# EAGLE library part FX8C-140P-SV (library Mechanical)
HRS FX8C SMT Receptacle
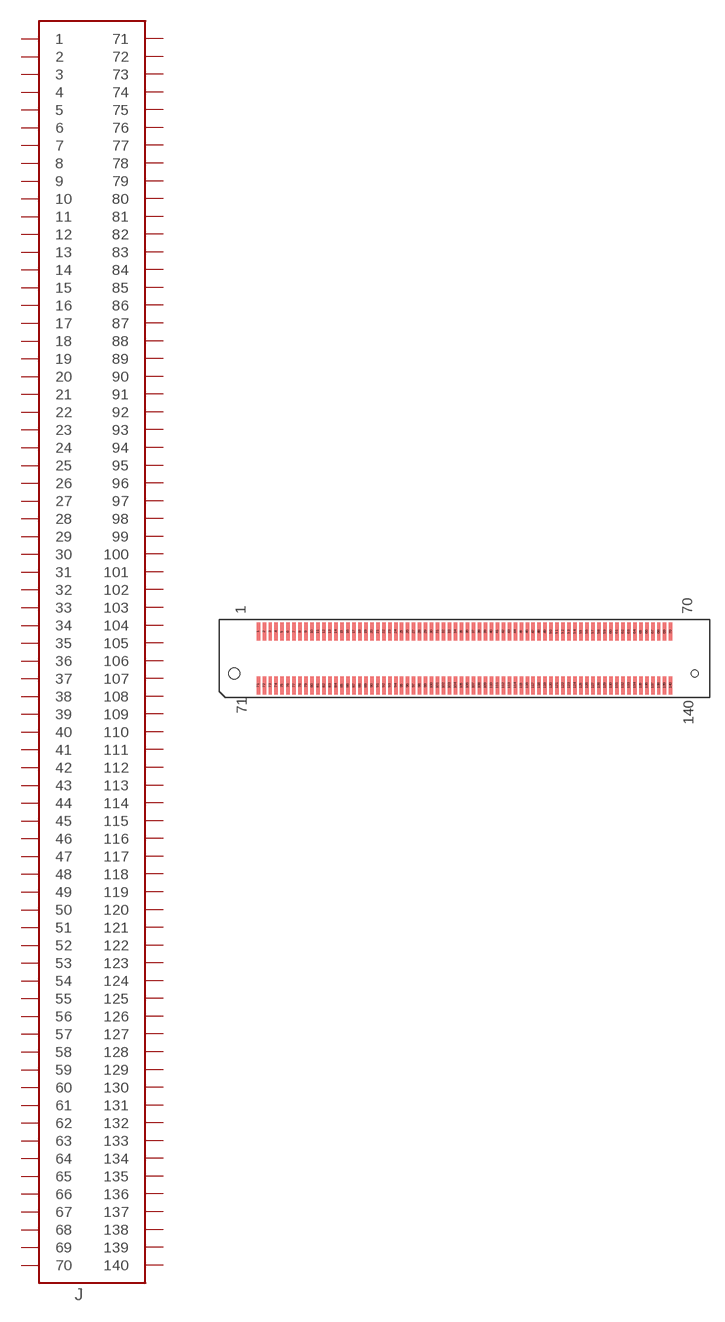
[diagram p21: symbol with the pads of FX8C-140P-SV; footprint FX8C-140P-SV]

Designator prefix J

## FX8C-140P-SV  [FX8C-140P-SV]
1  1
2  2
3  3
4  4
5  5
6  6
7  7
8  8
9  9
10  10
11  11
12  12
13  13
14  14
15  15
16  16
17  17
18  18
19  19
20  20
21  21
22  22
23  23
24  24
25  25
26  26
27  27
28  28
29  29
30  30
31  31
32  32
33  33
34  34
35  35
36  36
37  37
38  38
39  39
40  40
41  41
42  42
43  43
44  44
45  45
46  46
47  47
48  48
49  49
50  50
51  51
52  52
53  53
54  54
55  55
56  56
57  57
58  58
59  59
60  60
61  61
62  62
63  63
64  64
65  65
66  66
67  67
68  68
69  69
70  70
71  71
72  72
73  73
74  74
75  75
76  76
77  77
78  78
79  79
80  80
81  81
82  82
83  83
84  84
85  85
86  86
87  87
88  88
89  89
90  90
91  91
92  92
93  93
94  94
95  95
96  96
97  97
98  98
99  99
100  100
101  101
102  102
103  103
104  104
105  105
106  106
107  107
108  108
109  109
110  110
111  111
112  112
113  113
114  114
115  115
116  116
117  117
118  118
119  119
120  120
121  121
122  122
123  123
124  124
125  125
126  126
127  127
128  128
129  129
130  130
131  131
132  132
133  133
134  134
135  135
136  136
137  137
138  138
139  139
140  140

## Footprint FX8C-140P-SV (pad centres in mm)
smd 0.35 x 1.8: 1 -20.7,2.7; 2 -20.1,2.7; 3 -19.5,2.7; 4 -18.9,2.7; 5 -18.3,2.7; 6 -17.7,2.7; 7 -17.1,2.7; 8 -16.5,2.7; 9 -15.9,2.7; 10 -15.3,2.7; 11 -14.7,2.7; 12 -14.1,2.7; 13 -13.5,2.7; 14 -12.9,2.7; 15 -12.3,2.7; 16 -11.7,2.7; 17 -11.1,2.7; 18 -10.5,2.7; 19 -9.9,2.7; 20 -9.3,2.7; 21 -8.7,2.7; 22 -8.1,2.7; 23 -7.5,2.7; 24 -6.9,2.7; 25 -6.3,2.7; 26 -5.7,2.7; 27 -5.1,2.7; 28 -4.5,2.7; 29 -3.9,2.7; 30 -3.3,2.7; 31 -2.7,2.7; 32 -2.1,2.7; 33 -1.5,2.7; 34 -0.9,2.7; 35 -0.3,2.7; 36 0.3,2.7; 37 0.9,2.7; 38 1.5,2.7; 39 2.1,2.7; 40 2.7,2.7; 41 3.3,2.7; 42 3.9,2.7; 43 4.5,2.7; 44 5.1,2.7; 45 5.7,2.7; 46 6.3,2.7; 47 6.9,2.7; 48 7.5,2.7; 49 8.1,2.7; 50 8.7,2.7; 51 9.3,2.7; 52 9.9,2.7; 53 10.5,2.7; 54 11.1,2.7; 55 11.7,2.7; 56 12.3,2.7; 57 12.9,2.7; 58 13.5,2.7; 59 14.1,2.7; 60 14.7,2.7; 61 15.3,2.7; 62 15.9,2.7; 63 16.5,2.7; 64 17.1,2.7; 65 17.7,2.7; 66 18.3,2.7; 67 18.9,2.7; 68 19.5,2.7; 69 20.1,2.7; 70 20.7,2.7; 71 -20.7,-2.7; 72 -20.1,-2.7; 73 -19.5,-2.7; 74 -18.9,-2.7; 75 -18.3,-2.7; 76 -17.7,-2.7; 77 -17.1,-2.7; 78 -16.5,-2.7; 79 -15.9,-2.7; 80 -15.3,-2.7; 81 -14.7,-2.7; 82 -14.1,-2.7; 83 -13.5,-2.7; 84 -12.9,-2.7; 85 -12.3,-2.7; 86 -11.7,-2.7; 87 -11.1,-2.7; 88 -10.5,-2.7; 89 -9.9,-2.7; 90 -9.3,-2.7; 91 -8.7,-2.7; 92 -8.1,-2.7; 93 -7.5,-2.7; 94 -6.9,-2.7; 95 -6.3,-2.7; 96 -5.7,-2.7; 97 -5.1,-2.7; 98 -4.5,-2.7; 99 -3.9,-2.7; 100 -3.3,-2.7; 101 -2.7,-2.7; 102 -2.1,-2.7; 103 -1.5,-2.7; 104 -0.9,-2.7; 105 -0.3,-2.7; 106 0.3,-2.7; 107 0.9,-2.7; 108 1.5,-2.7; 109 2.1,-2.7; 110 2.7,-2.7; 111 3.3,-2.7; 112 3.9,-2.7; 113 4.5,-2.7; 114 5.1,-2.7; 115 5.7,-2.7; 116 6.3,-2.7; 117 6.9,-2.7; 118 7.5,-2.7; 119 8.1,-2.7; 120 8.7,-2.7; 121 9.3,-2.7; 122 9.9,-2.7; 123 10.5,-2.7; 124 11.1,-2.7; 125 11.7,-2.7; 126 12.3,-2.7; 127 12.9,-2.7; 128 13.5,-2.7; 129 14.1,-2.7; 130 14.7,-2.7; 131 15.3,-2.7; 132 15.9,-2.7; 133 16.5,-2.7; 134 17.1,-2.7; 135 17.7,-2.7; 136 18.3,-2.7; 137 18.9,-2.7; 138 19.5,-2.7; 139 20.1,-2.7; 140 20.7,-2.7
hole 1.1 at -23.1,-1.5
hole 0.7 at 23.1,-1.5